# Altium footprint library Footprint-Lib-ABahlmann-CON.PcbLib: 53 footprints (part 3 of 4)
Each footprint in its own frame and in the unit in brackets; x right, y up, seen from the top. Pads: shape width x height; smd on the part's side, far side on the other; paste and mask are expansions set on the pad; w line width, h text height; cw(c..) or ccw(c..) is an arc to the next point about the centre after c.
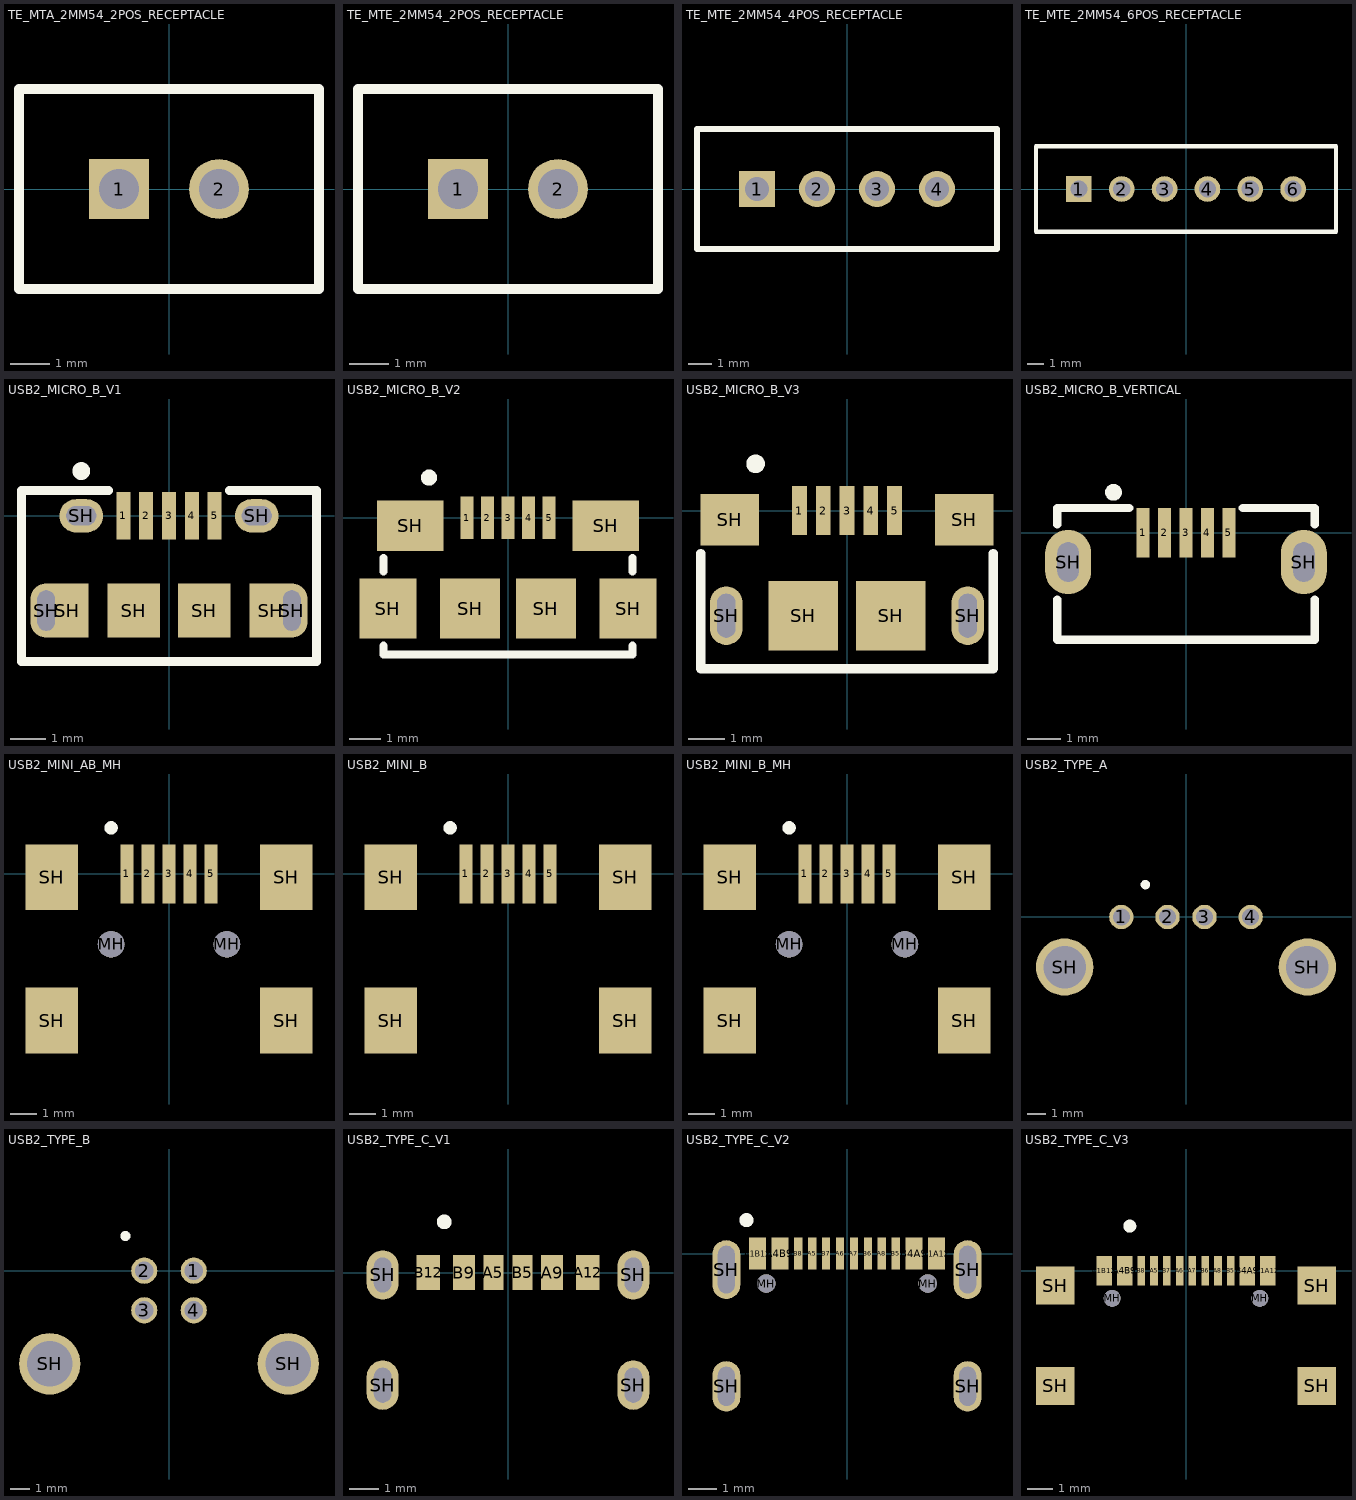
[diagram p2: the footprints below, top view; thin cyan lines are the x and y axes]

## TE_MTA_2MM54_2POS_RECEPTACLE [mil] "Connector Header Through Hole 2 position 0.100\" (2.54mm)"
pads (2):
  rect 60x60 hole 40: 1(-50,0)
  round 60 hole 40: 2(50,0)
Top Overlay:
  lines w10: -150,-100 150,-100 150,100 -150,100 -150,-100
3D body "TE_MTA_640456-2.STEP": height 420.58, standoff -139.26, extent -100,-127.88 100,122.12

## TE_MTE_2MM54_2POS_RECEPTACLE [mil] "Connector Header Through Hole 2 position 0.100\" (2.54mm)"
pads (2):
  rect 60x60 hole 40: 1(-50,0)
  round 60 hole 40: 2(50,0)
Top Overlay:
  lines w10: -150,-100 150,-100 150,100 -150,100 -150,-100
3D body "TE_AMP_MTE_5-103735-1.stp": height 535.5, standoff -129.5, extent -150,-100 150,160

## TE_MTE_2MM54_4POS_RECEPTACLE [mil] "Connector Header Through Hole 4 position 0.100\" (2.54mm)"
pads (4):
  rect 60x60 hole 40: 1(-150,0)
  round 60 hole 40: 2(-50,0) 3(50,0) 4(150,0)
Top Overlay:
  lines w10: -250,-100 250,-100 250,100 -250,100 -250,-100
3D body "TE_AMP_MTE_5-103735-3.stp": height 535.5, standoff -129.5, extent -250,-100 250,160

## TE_MTE_2MM54_6POS_RECEPTACLE [mil] "Connector Header Through Hole 6 position 0.100\" (2.54mm)"
pads (6):
  rect 60x60 hole 40: 1(-250,0)
  round 60 hole 40: 2(-150,0) 3(-50,0) 4(50,0) 5(150,0) 6(250,0)
Top Overlay:
  lines w10: -350,-100 350,-100 350,100 -350,100 -350,-100
3D body "5-103908-5.stp": height 535.5, standoff -129.5, extent -350,-100 350,160

## USB2_MICRO_B_V1 [mm] "USB - micro B USB 2.0 Receptacle Connector 5 Position Surface Mount, Right Angle; Through Hole"
pads (13):
  rect 0.4x1.35 smd: 1(-1.3,0) 2(-0.65,0) 3(0,0) 4(0.65,0) 5(1.3,0)
  oval 0.9x1.55 hole 0.5 slot 1.15 at 90 deg: SH(-3.5,-2.7) SH(3.5,-2.7)
  rect 1.2x1.55 smd: SH(-2.9,-2.7) SH(2.9,-2.7)
  oval 1.25x0.95 hole 0.55 slot 0.85 at 0 deg: SH(-2.5,0) SH(2.5,0)
  rect 1.5x1.55 smd: SH(-1,-2.7) SH(1,-2.7)
Top Overlay:
  circle w0.254: c-2.5,1.275 r0.127
  lines w0.254: -1.725,0.725 -4.2,0.725 -4.2,-4.15 4.2,-4.15 4.2,0.725 1.725,0.725
3D body "10118194-0001LF.STEP": height 2.74, standoff -0.54, extent -4.025,-5.405 4.025,0.125

## USB2_MICRO_B_V2 [mm] "USB - micro B USB 2.0 Receptacle Connector 5 Position Surface Mount, Right Angle; Through Hole"
pads (11):
  rect 0.4x1.35 smd: 1(-1.3,0) 2(-0.65,0) 3(0,0) 4(0.65,0) 5(1.3,0)
  rect 1.8x1.9 smd: SH(-3.8,-2.875) SH(3.8,-2.875)
  rect 2.1x1.6 smd: SH(-3.1,-0.25) SH(3.1,-0.25)
  rect 1.9x1.9 smd: SH(-1.2,-2.875) SH(1.2,-2.875)
Top Overlay:
  circle w0.254: c-2.5,1.275 r0.127
  lines w0.254: -3.95,-4.05 -3.95,-4.325 3.95,-4.325 3.95,-4.05 ; -3.95,-1.7 -3.95,-1.275 ; 3.95,-1.7 3.95,-1.275
3D body "10118192-0001LF.STEP": height 2.57, standoff -0.23, extent -3.955,-5.446 3.955,0.22

## USB2_MICRO_B_V3 [mm] "USB - micro B USB 2.0 Receptacle Connector 5 Position Surface Mount, Right Angle; Through Hole"
pads (11):
  rect 0.4x1.35 smd: 1(-1.3,0) 2(-0.65,0) 3(0,0) 4(0.65,0) 5(1.3,0)
  oval 0.9x1.6 hole 0.5 slot 1.2 at 90 deg: SH(-3.3,-2.875) SH(3.3,-2.875)
  rect 1.6x1.4 smd: SH(-3.2,-0.25) SH(3.2,-0.25)
  rect 1.9x1.9 smd: SH(-1.2,-2.875) SH(1.2,-2.875)
Top Overlay:
  circle w0.254: c-2.5,1.275 r0.127
  lines w0.254: -4,-1.175 -4,-4.325 4,-4.325 4,-1.175
3D body "10118193-0001LF.STEP": height 2.87, standoff -0.73, extent -3.928,-5.661 3.928,0

## USB2_MICRO_B_VERTICAL [mm] "USB 2.0 Connector Type micro B, Right-Angle"
pads (7):
  rect 0.4x1.5 smd: 1(-1.3,0) 2(-0.65,0) 3(0,0) 4(0.65,0) 5(1.3,0)
  oval 1.4x1.95 hole 0.65 slot 1.2 at 90 deg: SH(-3.575,-0.89) SH(3.575,-0.89)
Top Overlay:
  circle w0.254: c-2.2,1.225 r0.127
  lines w0.254: -3.9,-2.025 -3.9,-3.25 3.9,-3.25 3.9,-2.025 ; -3.9,0.25 -3.9,0.75 -1.725,0.75 ; 1.725,0.75 3.9,0.75 3.9,0.25
3D body "USB3140-30-0070-1-C.stp": height 6.56, standoff -0.64, extent -3.9,-3.25 3.9,0.75

## USB2_MINI_AB_MH [mm]
pads (11):
  rect 0.5x2.25 smd: 1(-1.6,0) 2(-0.8,0) 3(0,0) 4(0.8,0) 5(1.6,0)
  round 1 hole 1 unplated: MH(-2.2,-2.675) MH(2.2,-2.675)
  rect 2x2.5 smd: SH(-4.45,-5.575) SH(-4.45,-0.125) SH(4.45,-5.575) SH(4.45,-0.125)
Top Overlay:
  circle w0.254: c-2.2,1.75 r0.127
3D body "10033527-N3112LF.STEP": height 3.96, standoff -1.04, extent -4.95,-8.525 4.95,0.795

## USB2_MINI_B [mm]
pads (9):
  rect 0.5x2.25 smd: 1(-1.6,0) 2(-0.8,0) 3(0,0) 4(0.8,0) 5(1.6,0)
  rect 2x2.5 smd: SH(-4.45,-5.575) SH(-4.45,-0.125) SH(4.45,-5.575) SH(4.45,-0.125)
Top Overlay:
  circle w0.254: c-2.2,1.75 r0.127
3D body "10033526-N3222LF.STEP": height 3.96, standoff 0.01, extent -4.95,-8.525 4.95,0.795

## USB2_MINI_B_MH [mm]
pads (11):
  rect 0.5x2.25 smd: 1(-1.6,0) 2(-0.8,0) 3(0,0) 4(0.8,0) 5(1.6,0)
  round 1 hole 1 unplated: MH(-2.2,-2.675) MH(2.2,-2.675)
  rect 2x2.5 smd: SH(-4.45,-5.575) SH(-4.45,-0.125) SH(4.45,-5.575) SH(4.45,-0.125)
Top Overlay:
  circle w0.254: c-2.2,1.75 r0.127
3D body "10033526-N3212LF.STEP": height 3.96, standoff -1.04, extent -4.95,-8.525 4.95,0.795

## USB2_TYPE_A [mm]
pads (6):
  round 1.32 hole 0.92: 1(-3.5,0) 2(-1,0) 3(1,0) 4(3.5,0)
  round 3.1 hole 2.3: SH(-6.57,-2.71) SH(6.57,-2.71)
Top Overlay:
  circle w0.254: c-2.2,1.75 r0.127
3D body "GSB12110RSKEU.STEP": height 7.76, standoff -3.29, extent -7.9,-13.025 7.9,1.475

## USB2_TYPE_B [mm]
pads (6):
  round 1.32 hole 0.92: 1(1.25,0) 2(-1.25,0) 3(-1.25,-2) 4(1.25,-2)
  round 3.1 hole 2.3: SH(-6.02,-4.7) SH(6.02,-4.7)
Top Overlay:
  circle w0.254: c-2.2,1.75 r0.127
3D body "GSB22120RSKEU.STEP": height 10.96, standoff -3.64, extent -7.43,-14.95 7.43,1.15

## USB2_TYPE_C_V1 [mm]
pads (10):
  rect 0.7x1.2 smd mask+0.05: A5(-0.5,0) B5(0.5,0)
  rect 0.76x1.2 smd mask+0.05: A9(1.52,0) B9(-1.52,0)
  rect 0.8x1.2 smd mask+0.05: A12(2.75,0) B12(-2.75,0)
  oval 1.1x1.7 hole 0.6 slot 1.2 at 90 deg: SH(-4.32,-3.88) SH(-4.32,-0.08) SH(4.32,-3.88) SH(4.32,-0.08)
Top Overlay:
  circle w0.254: c-2.2,1.75 r0.127
3D body "10164359-00011LF.STEP": height 3.27, standoff -0.89, extent -4.445,-6.5 4.495,0.4

## USB2_TYPE_C_V2 [mm]
pads (18):
  rect 0.6x1.14 smd mask+0.05: A1B12(-3.2,0) A4B9(-2.4,0) B1A12(3.2,0) B4A9(2.4,0)
  rect 0.3x1.14 smd mask+0.05: A5(-1.25,0) A6(-0.25,0) A7(0.25,0) A8(1.25,0) B5(1.75,0) B6(0.75,0) B7(-0.75,0) B8(-1.75,0)
  round 0.65 hole 0.65 unplated: MH(-2.89,-1.07) MH(2.89,-1.07)
  oval 1x1.8 hole 0.6 slot 1.4 at 90 deg: SH(-4.32,-4.75) SH(4.32,-4.75)
  oval 1x2.1 hole 0.6 slot 1.7 at 90 deg: SH(-4.32,-0.57) SH(4.32,-0.57)
Top Overlay:
  circle w0.254: c-3.6,1.2 r0.127
3D body "12402012E212A.STEP": height 3.27, standoff -0.89, extent -4.47,-7.35 4.47,0.25

## USB2_TYPE_C_V3 [mm]
pads (18):
  rect 0.6x1.15 smd mask+0.05: A1B12(-3.2,0) A4B9(-2.4,0) B1A12(3.2,0) B4A9(2.4,0)
  rect 0.3x1.15 smd mask+0.05: A5(-1.25,0) A6(-0.25,0) A7(0.25,0) A8(1.25,0) B5(1.75,0) B6(0.75,0) B7(-0.75,0) B8(-1.75,0)
  round 0.65 hole 0.65 unplated: MH(-2.89,-1.075) MH(2.89,-1.075)
  rect 1.5x1.5 smd: SH(-5.12,-4.505) SH(-5.12,-0.575) SH(5.12,-4.505) SH(5.12,-0.575)
Top Overlay:
  circle w0.254: c-2.2,1.75 r0.127
3D body "GSB1C41110SSHR.STEP": height 3.21, standoff -0.67, extent -5.67,-7.358 5.67,0.24